# EAGLE library part DRV8835 (library MEE_433)
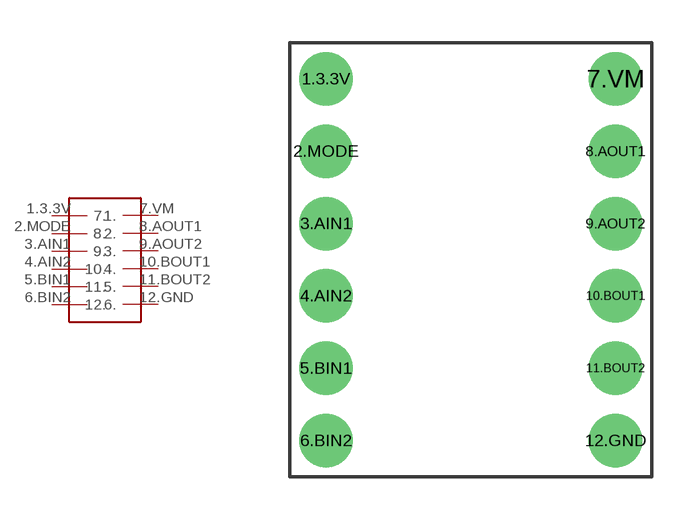
[diagram p2: symbol with the pads of DRV8835; footprint DRV8835]

Designator prefix -

## DRV8835  [DRV8835]
1.3.3V  1.
2.MODE  2.
3.AIN1  3.
4.AIN2  4.
5.BIN1  5.
6.BIN2  6.
7.VM  7.
8.AOUT1  8.
9.AOUT2  9.
10.BOUT1  10.
11.BOUT2  11.
12.GND  12.

## Footprint DRV8835 (pad centres in mm)
drill 1.016 pad 1.88: 1.3.3V -5.08,5.08; 2.MODE -5.08,2.54; 3.AIN1 -5.08,0; 4.AIN2 -5.08,-2.54; 5.BIN1 -5.08,-5.08; 6.BIN2 -5.08,-7.62; 7.VM 5.08,5.08; 8.AOUT1 5.08,2.54; 9.AOUT2 5.08,0; 10.BOUT1 5.08,-2.54; 11.BOUT2 5.08,-5.08; 12.GND 5.08,-7.62